# Altium footprint library XT30PW-M.PcbLib: 1 footprints
Each footprint in its own frame and in the unit in brackets; x right, y up, seen from the top. Pads: shape width x height; smd on the part's side, far side on the other; paste and mask are expansions set on the pad; w line width, h text height; cw(c..) or ccw(c..) is an arc to the next point about the centre after c.
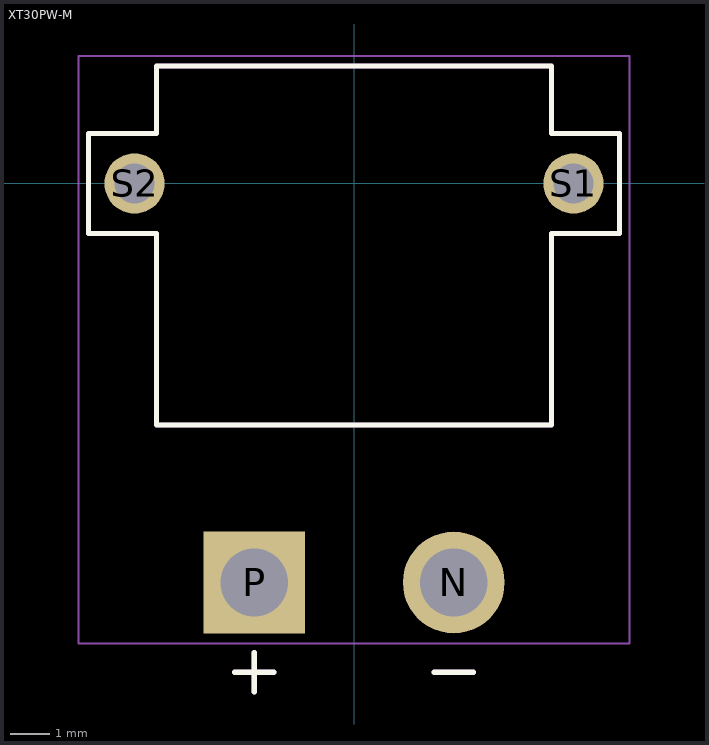
[diagram p0: the footprint, top view; thin cyan lines are the x and y axes]

## XT30PW-M [mm]
pads (4):
  round 2.55 hole 1.7: N(2.5,-10)
  rect 2.55x2.55 / inner round 2.55 / far side rect 2.55x2.55 hole 1.7: P(-2.5,-10)
  round 1.508 hole 1: S1(5.5,0) S2(-5.5,0)
Top Overlay:
  lines w0.127: -3,-12.25 -2,-12.25 ; -2.5,-12.75 -2.5,-11.75 ; 2,-12.25 3,-12.25 ; -6.65,-1.25 -4.95,-1.25 -4.95,-6.05 4.95,-6.05 4.95,-1.25 6.65,-1.25 6.65,1.25 4.95,1.25 4.95,2.95 -4.95,2.95 -4.95,1.25 -6.65,1.25 -6.65,-1.25
Mechanical 13:
  lines w0.127: -3,-12.25 -2,-12.25 ; -2.5,-12.75 -2.5,-11.75 ; 2,-12.25 3,-12.25 ; -6.65,-1.25 -4.95,-1.25 -4.95,-6.05 4.95,-6.05 4.95,-1.25 6.65,-1.25 6.65,1.25 4.95,1.25 4.95,2.95 -4.95,2.95 -4.95,1.25 -6.65,1.25 -6.65,-1.25
Mechanical 15:
  lines w0.05: -6.9,-11.525 -6.9,3.2 6.9,3.2 6.9,-11.525 -6.9,-11.525
3D body "step_temp.STEP": height 5, standoff -2, extent -6.65,-11 6.65,2.95